# Altium footprint library 140.PcbLib: 3 footprints
Each footprint in its own frame and in the unit in brackets; x right, y up, seen from the top. Pads: shape width x height; smd on the part's side, far side on the other; paste and mask are expansions set on the pad; w line width, h text height; cw(c..) or ccw(c..) is an arc to the next point about the centre after c.
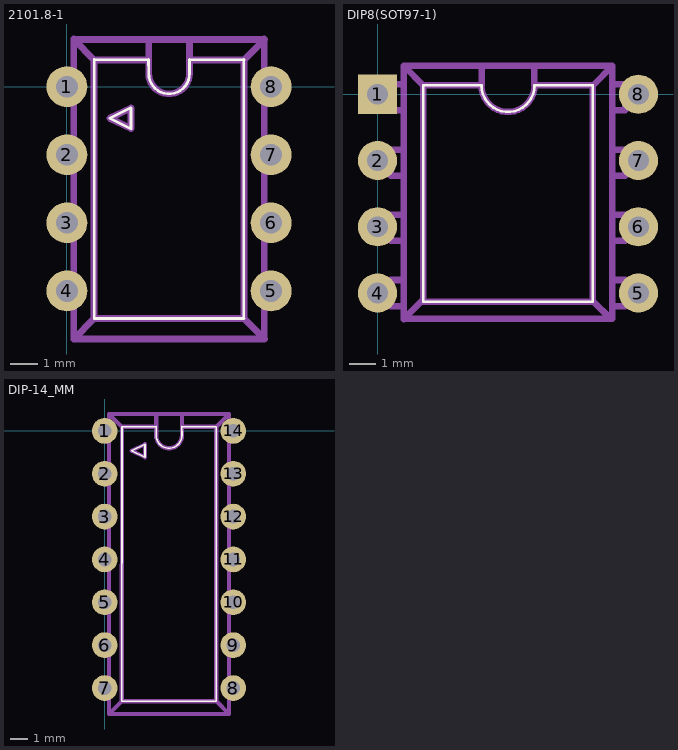
[diagram p0: the footprints below, top view; thin cyan lines are the x and y axes]

## 2101.8-1 [mm]
pads (8):
  round 1.5 hole 0.8: 1(0,0) 2(0,-2.5) 3(0,-5) 4(0,-7.5) 5(7.5,-7.5) 6(7.5,-5) 7(7.5,-2.5) 8(7.5,0)
Top Overlay:
  lines w0.1: 1,-8.5 1,1 ; 1.004,-8.516 6.504,-8.516 ; 1.004,0.984 3.004,0.984 ; 3,1 3.004,0.484 ccw(c3.754,0.484) 4.504,0.484 4.5,1 ; 4.504,0.984 6.504,0.984 ; 6.5,-8.5 6.5,1 ; 1.576,-1.161 2.352,-1.541 2.352,-0.781 1.576,-1.161
Mechanical 1:
  lines w0.25: -0.2,0 0,0 ; 0.004,-7.816 -0.219,-7.816 -0.219,-7.516 -0.219,-7.216 0.004,-7.216 ; 0.004,-5.316 -0.219,-5.316 -0.219,-5.016 -0.219,-4.716 0.004,-4.716 ; 0.004,-2.816 -0.219,-2.816 -0.219,-2.516 -0.219,-2.216 0.004,-2.216 ; 0.004,-0.316 -0.219,-0.316 -0.219,-0.016 -0.219,0.284 0.004,0.284 ; 0.25,-9.25 0.25,1.75 ; 0.254,-8.116 0.004,-8.116 0.004,-6.916 0.254,-6.916 ; 0.254,-5.616 0.004,-5.616 0.004,-4.416 0.254,-4.416 ; 0.254,-3.116 0.004,-3.116 0.004,-1.916 0.254,-1.916 ; 0.254,-0.616 0.004,-0.616 0.004,0.584 0.254,0.584 ; 1,-8.5 1,1 ; 3.004,0.984 1.004,0.984 0.254,1.734 7.254,1.734 6.504,0.984 4.504,0.984 ; 3.004,1.734 3.004,0.484 ccw(c3.754,0.484) 4.504,0.484 4.504,1.734 ; 6.5,-8.5 6.5,1 ; 7.25,-9.25 7.25,1.75 ; 7.254,-8.116 7.504,-8.116 7.504,-6.916 7.254,-6.916 ; 7.254,-5.616 7.504,-5.616 7.504,-4.416 7.254,-4.416 ; 7.254,-3.116 7.504,-3.116 7.504,-1.916 7.254,-1.916 ; 7.254,-0.616 7.504,-0.616 7.504,0.584 7.254,0.584 ; 7.504,-7.816 7.727,-7.816 7.727,-7.516 7.727,-7.216 7.504,-7.216 ; 7.504,-5.316 7.727,-5.316 7.727,-5.016 7.727,-4.716 7.504,-4.716 ; 7.504,-2.816 7.727,-2.816 7.727,-2.516 7.727,-2.216 7.504,-2.216 ; 7.504,-0.316 7.727,-0.316 7.727,-0.016 7.727,0.284 7.504,0.284 ; 0.254,-9.266 7.254,-9.266 6.504,-8.516 1.004,-8.516 0.254,-9.266 ; 1.576,-1.161 2.352,-1.541 2.352,-0.781 1.576,-1.161

## DIP8(SOT97-1) [mm]
pads (8):
  rect 1.5x1.5 hole 0.8: 1(0,0)
  round 1.5 hole 0.8: 2(0,-2.54) 3(0,-5.08) 4(0,-7.62) 5(10,-7.62) 6(10,-5.08) 7(10,-2.54) 8(10,0)
Top Overlay:
  lines w0.1: 1.75,-7.96 1.75,0.34 ; 1.76,-7.96 8.24,-7.96 ; 1.76,0.34 3.984,0.34 ccw(c5,0.34) 6.016,0.34 8.24,0.34 ; 8.25,-7.96 8.25,0.34
Mechanical 1:
  lines w0.25: 0.5,-7.37 -0.25,-7.37 -0.25,-7.87 0.5,-7.87 ; 0.5,-4.87 -0.25,-4.87 -0.25,-5.37 0.5,-5.37 ; 0.5,-2.37 -0.25,-2.37 -0.25,-2.87 0.5,-2.87 ; 0.5,0.13 -0.25,0.13 -0.25,-0.37 0.5,-0.37 ; 1,-8.62 1.75,-7.87 ; 1,-8.12 0.5,-8.12 0.5,-7.87 ; 1,-7.12 0.5,-7.12 0.5,-7.87 ; 1,-5.62 0.5,-5.62 0.5,-5.37 ; 1,-4.62 0.5,-4.62 0.5,-5.37 ; 1,-3.12 0.5,-3.12 0.5,-2.87 ; 1,-2.12 0.5,-2.12 0.5,-2.87 ; 1,-0.62 0.5,-0.62 0.5,-0.37 ; 1,0.38 0.5,0.38 0.5,-0.37 ; 1.75,-7.96 1.75,0.34 1,1.09 ; 1.76,-7.96 8.24,-7.96 ; 1.76,0.34 3.984,0.34 ccw(c5,0.34) 6.016,0.34 8.24,0.34 ; 4,0.34 4,1.09 ; 6,0.34 6,1.09 ; 8.25,-7.96 8.25,0.34 ; 8.25,-7.92 8.95,-8.61 ; 8.25,0.33 9,1.08 ; 9,-8.12 9.5,-8.12 9.5,-7.37 ; 9,-7.12 9.5,-7.12 9.5,-7.37 ; 9,-5.62 9.5,-5.62 9.5,-4.87 ; 9,-4.62 9.5,-4.62 9.5,-4.87 ; 9,-3.12 9.5,-3.12 9.5,-2.37 ; 9,-2.12 9.5,-2.12 9.5,-2.37 ; 9,-0.62 9.5,-0.62 9.5,0.13 ; 9,0.38 9.5,0.38 9.5,0.13 ; 9.5,-7.87 10.25,-7.87 10.25,-7.37 9.5,-7.37 ; 9.5,-5.37 10.25,-5.37 10.25,-4.87 9.5,-4.87 ; 9.5,-2.87 10.25,-2.87 10.25,-2.37 9.5,-2.37 ; 9.5,-0.37 10.25,-0.37 10.25,0.13 9.5,0.13 ; 1,1.09 1,-8.61 9,-8.61 9,1.09 6,1.09 ; 1,1.09 4,1.09 ; 4,1.09 6,1.09

## DIP-14_MM [mm]
pads (14):
  round 1.5 hole 0.8: 1(0,0) 2(0,-2.5) 3(0,-5) 4(0,-7.5) 5(0,-10) 6(0,-12.5) 7(0,-15) 8(7.5,-15) 9(7.5,-12.5) 10(7.5,-10) 11(7.5,-7.5) 12(7.5,-5) 13(7.5,-2.5) 14(7.5,0)
Top Overlay:
  lines w0.1: 1,-15.75 1.004,0.234 3.004,0.234 ; 1.004,-15.766 6.504,-15.766 ; 3,0.25 3.004,-0.266 ccw(c3.754,-0.266) 4.504,-0.266 4.5,0.25 ; 4.504,0.234 6.504,0.234 6.5,-15.75 ; 1.576,-1.161 2.352,-1.541 2.352,-0.781 1.576,-1.161
Mechanical 1:
  lines w0.25: -0.2,0 0,0 ; 0.004,-15.316 -0.219,-15.316 -0.219,-15.016 -0.219,-14.716 0.004,-14.716 ; 0.004,-12.816 -0.219,-12.816 -0.219,-12.516 -0.219,-12.216 0.004,-12.216 ; 0.004,-10.316 -0.219,-10.316 -0.219,-10.016 -0.219,-9.716 0.004,-9.716 ; 0.004,-7.816 -0.219,-7.816 -0.219,-7.516 -0.219,-7.216 0.004,-7.216 ; 0.004,-5.316 -0.219,-5.316 -0.219,-5.016 -0.219,-4.716 0.004,-4.716 ; 0.004,-2.816 -0.219,-2.816 -0.219,-2.516 -0.219,-2.216 0.004,-2.216 ; 0.004,-0.316 -0.219,-0.316 -0.219,-0.016 -0.219,0.284 0.004,0.284 ; 0.25,-16.5 0.254,0.984 ; 0.254,-15.616 0.004,-15.616 0.004,-14.416 0.254,-14.416 ; 0.254,-13.116 0.004,-13.116 0.004,-11.916 0.254,-11.916 ; 0.254,-10.616 0.004,-10.616 0.004,-9.416 0.254,-9.416 ; 0.254,-8.116 0.004,-8.116 0.004,-6.916 0.254,-6.916 ; 0.254,-5.616 0.004,-5.616 0.004,-4.416 0.254,-4.416 ; 0.254,-3.116 0.004,-3.116 0.004,-1.916 0.254,-1.916 ; 0.254,-0.616 0.004,-0.616 0.004,0.584 0.254,0.584 ; 1,-15.75 1.004,0.234 ; 3.004,0.234 1.004,0.234 ; 3.004,0.984 3.004,-0.266 ccw(c3.754,-0.266) 4.504,-0.266 4.504,0.984 ; 4.504,0.234 6.504,0.234 ; 6.5,-15.75 6.504,0.234 ; 7.25,-16.5 7.254,0.984 ; 7.254,-15.616 7.504,-15.616 7.504,-14.416 7.254,-14.416 ; 7.254,-13.116 7.504,-13.116 7.504,-11.916 7.254,-11.916 ; 7.254,-10.616 7.504,-10.616 7.504,-9.416 7.254,-9.416 ; 7.254,-8.116 7.504,-8.116 7.504,-6.916 7.254,-6.916 ; 7.254,-5.616 7.504,-5.616 7.504,-4.416 7.254,-4.416 ; 7.254,-3.116 7.504,-3.116 7.504,-1.916 7.254,-1.916 ; 7.254,-0.616 7.504,-0.616 7.504,0.584 7.254,0.584 ; 7.504,-15.316 7.727,-15.316 7.727,-15.016 7.727,-14.716 7.504,-14.716 ; 7.504,-12.816 7.727,-12.816 7.727,-12.516 7.727,-12.216 7.504,-12.216 ; 7.504,-10.316 7.727,-10.316 7.727,-10.016 7.727,-9.716 7.504,-9.716 ; 7.504,-7.816 7.727,-7.816 7.727,-7.516 7.727,-7.216 7.504,-7.216 ; 7.504,-5.316 7.727,-5.316 7.727,-5.016 7.727,-4.716 7.504,-4.716 ; 7.504,-2.816 7.727,-2.816 7.727,-2.516 7.727,-2.216 7.504,-2.216 ; 7.504,-0.316 7.727,-0.316 7.727,-0.016 7.727,0.284 7.504,0.284 ; 0.254,0.984 7.254,0.984 ; 0.254,0.984 1.004,0.234 ; 6.504,0.234 7.254,0.984 ; 0.254,-16.516 7.254,-16.516 6.504,-15.766 1.004,-15.766 0.254,-16.516 ; 1.576,-1.161 2.352,-1.541 2.352,-0.781 1.576,-1.161